# Altium footprint library new-version.PcbLib: 241 footprints (part 16 of 16)
Each footprint in its own frame and in the unit in brackets; x right, y up, seen from the top. Pads: shape width x height; smd on the part's side, far side on the other; paste and mask are expansions set on the pad; w line width, h text height; cw(c..) or ccw(c..) is an arc to the next point about the centre after c.
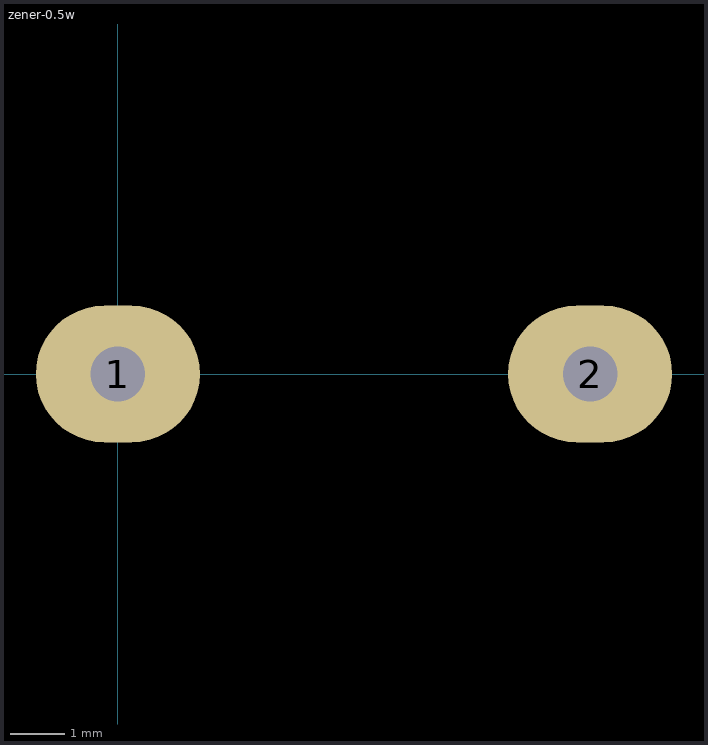
[diagram p15: the footprint, top view; thin cyan lines are the x and y axes]

## zener-0.5w [mm]
pads (2):
  oval 3x2.5 hole 1: 1(0,0) 2(8.636,0)
Bottom Overlay:
  lines w0.254: 0,0 2.667,0 3.175,0 5.969,0 9,0 ; 2.54,-0.889 3.207,-0.889 3.207,0.889 ; 3.048,-0.889 3.048,0.889 3.207,0.889 ; 3.175,-0.889 2.921,-0.889 2.921,0.889 3.572,0.889 ; 3.175,-0.445 3.175,-0.381 ; 3.683,-0.889 5.969,-0.889 5.969,0.889 4.889,0.889 4.318,0.889 ; 3.937,0.889 3.207,0.889
3D body "zener-0.stp": height 2, standoff -3.3, extent -0.182,-1.084 8.818,1.016